# Altium schematic symbol library FERRITE_330R_1200mA.SchLib: 1 symbol
Pins are listed as number, name and electrical type; pins without a type are passive.

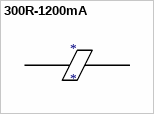
[diagram p0: symbol 300R-1200mA]

## 300R-1200mA
designator *
footprint 3-0603 (Chip Resistor; Body 1.6 x 0.9 mm (LxW typ))
pins: 1, 2